# Altium integrated library KF301-2P.IntLib: 1 symbol
Pins are listed as number, name and electrical type; pins without a type are passive.

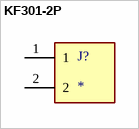
[diagram p0: symbol KF301-2P]

## KF301-2P
designator J?
2 Pin Terminal Block 5mm Pitch; MP: KF301-2P; Price: None; Value: *; Package: None; Availability: Unavailable
footprint HANDSON_KF301-2P
pins: 1, 2